# Altium footprint library fuse.PcbLib: 15 footprints
Each footprint in its own frame and in the unit in brackets; x right, y up, seen from the top. Pads: shape width x height; smd on the part's side, far side on the other; paste and mask are expansions set on the pad; w line width, h text height; cw(c..) or ccw(c..) is an arc to the next point about the centre after c.
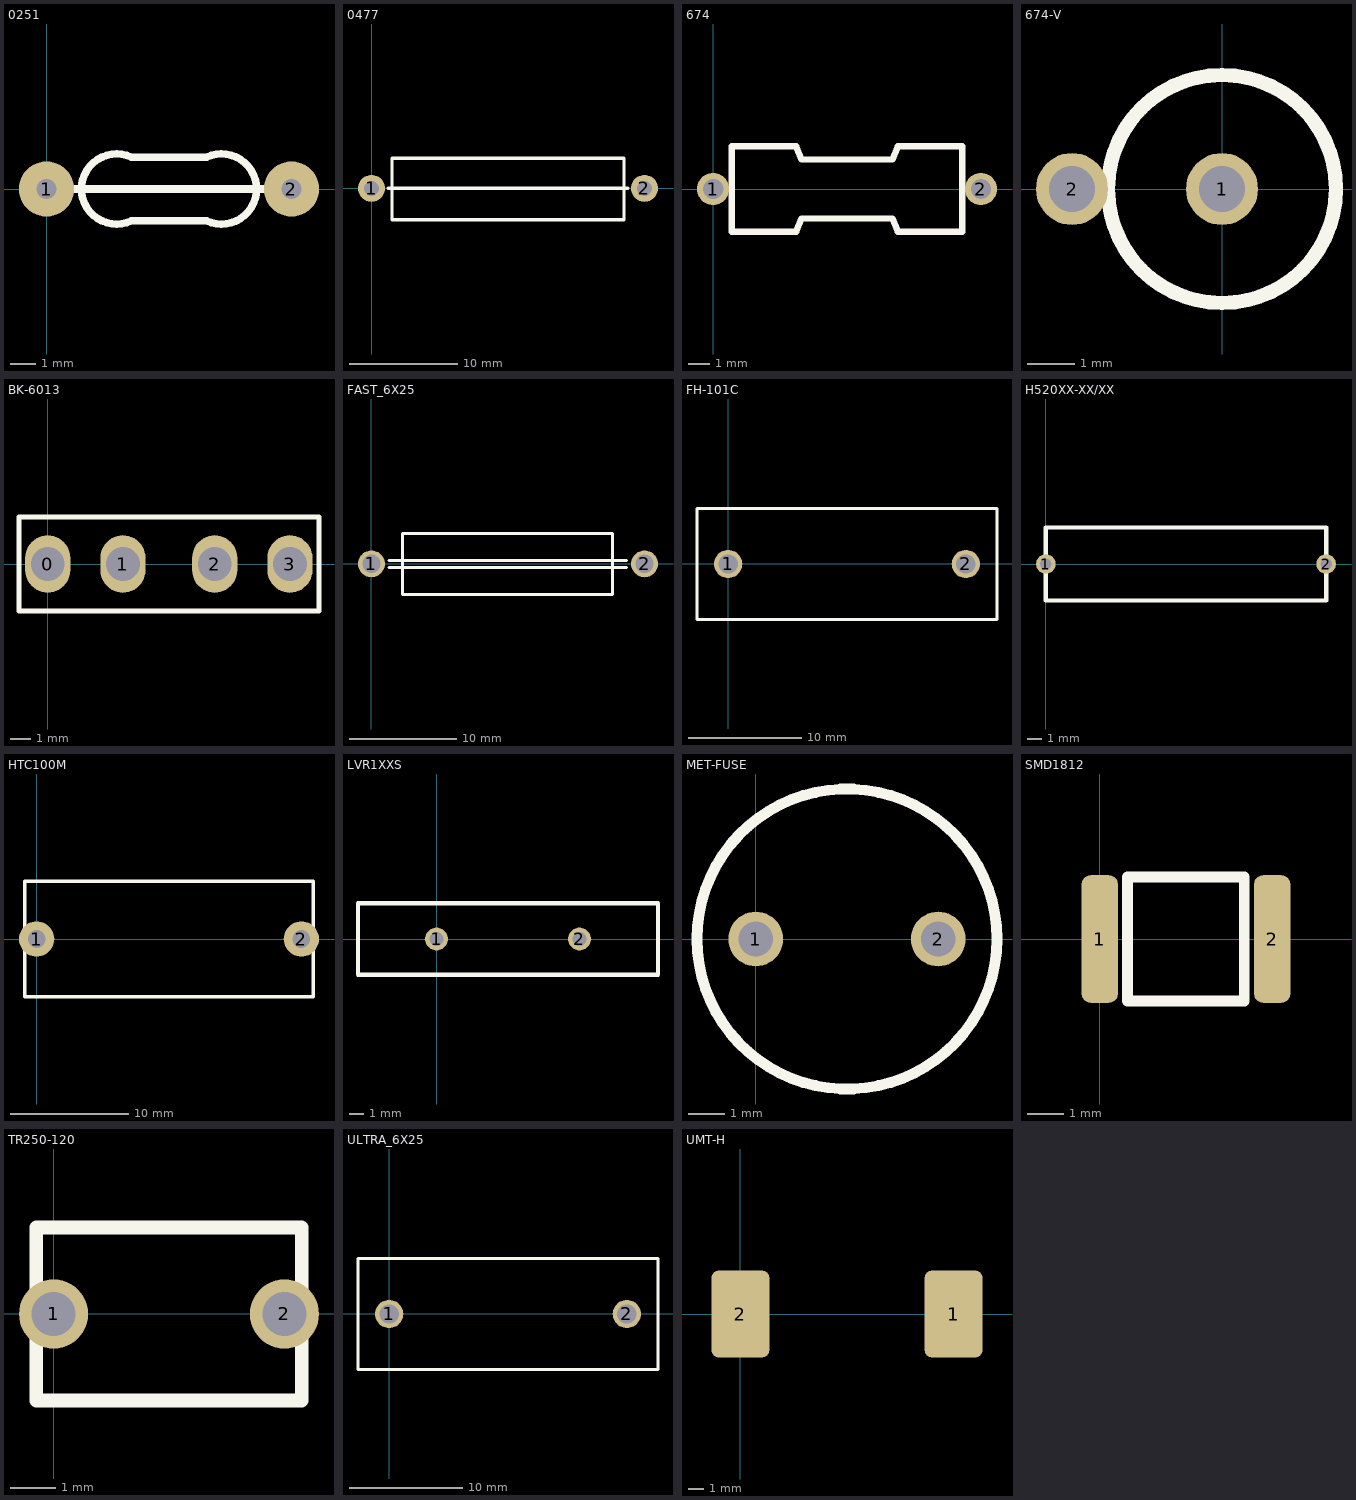
[diagram p0: the footprints below, top view; thin cyan lines are the x and y axes]

## 0251 [mm]
pads (2):
  round 2.2 hole 0.8: 1(0,0) 2(9.779,0)
Top Overlay:
  lines w0.3: 1.143,0 8.636,0 ; 3.386,-1.269 cw(c2.794,0) 3.386,1.269 ; 3.429,-1.27 6.35,-1.27 ; 3.429,1.27 6.35,1.27 ; 6.392,-1.271 ccw(c6.985,0) 6.392,1.271

## 0477 [mm]
pads (2):
  round 2.5 hole 1.4: 1(0,0) 2(25.273,0)
Top Overlay:
  lines w0.3: 1.524,0 23.749,0 ; 1.905,-2.921 1.905,2.794 23.368,2.794 23.368,-2.921 1.905,-2.921

## 674 [mil]
pads (2):
  round 60 hole 38: 1(0,0) 2(500,0)
Top Overlay:
  lines w11.81: 35,-80 155,-80 165,-55 335,-55 345,-80 465,-80 465,80 345,80 335,55 165,55 155,80 35,80 35,-80

## 674-V [mil]
pads (2):
  round 60 hole 38: 1(0,0) 2(-125,0)
Top Overlay:
  circle w11.81: c0,0 r95

## BK-6013 [mm]
height 9
pads (4):
  oval 2.2x2.8 hole 1.65 unplated: 0(0,0) 1(3.66,0) 2(8.13,0) 3(11.79,0)
Top Overlay:
  lines w0.254: -1.397,-2.286 13.208,-2.286 13.208,2.286 -1.397,2.286 -1.397,-2.286
3D body "User Library-0297025.STEP": height 20.3, standoff 3.37, extent 0.468,-1.905 11.368,1.904
3D body "BK-6013.step": height 8.8, standoff -2.2, extent -1.397,-2.362 13.303,2.388

## FAST_6X25 [mm]
pads (2):
  round 2.5 hole 1.7: 1(0,0) 2(25.4,0)
Top Overlay:
  lines w0.3: 1.64,-0.33 23.69,-0.33 ; 1.64,0.3 23.69,0.3 ; 2.9,-2.85 22.43,-2.85 22.43,2.82 16.13,2.82 2.9,2.82 2.9,-2.85

## FH-101C [mm]
pads (2):
  round 2.5 hole 1.7: 1(0,0) 2(21,0)
Top Overlay:
  lines w0.3: -2.75,-4.9 -2.75,4.9 23.75,4.9 23.75,-4.9 -2.75,-4.9

## H520XX-XX/XX [mm]
pads (2):
  round 1.4 hole 0.8: 1(0,0) 2(20,0)
Top Overlay:
  lines w0.3: 0,-2.6 0,2.6 20,2.6 20,-2.6 0,-2.6

## HTC100M [mm]
pads (2):
  round 3 hole 1.5: 1(0,0) 2(22.5,0)
Top Overlay:
  lines w0.3: 23.49,-4.9 -1,-4.9 -1,4.9 23.5,4.9 23.5,-4.9

## LVR1XXS [mm]
pads (2):
  round 1.6 hole 1: 1(0,0) 2(10,0)
Top Overlay:
  lines w0.3: -5.5,-2.5 -5.5,-2 -5.5,2.5 5,2.5 15.5,2.5 15.5,-2.5 -5.5,-2.5

## MET-FUSE [mil]
pads (2):
  round 60 hole 38: 1(0,0) 2(200,0)
Top Overlay:
  circle w11.81: c100,0 r164.37

## SMD1812 [mm]
pads (2):
  rrect50% 1x3.5 smd: 1(0,0) 2(4.73,0)
Top Overlay:
  lines w0.3: 0.762,-1.705 0.762,1.705 3.962,1.705 3.962,-1.705 0.762,-1.705
3D body "User Library-Fuse 1812.step": height 1.03, standoff 0, extent 0.023,-1.74 4.758,1.74

## TR250-120 [mil]
pads (2):
  round 60 hole 38: 1(0,0) 2(200,0)
Top Overlay:
  lines w11.81: -15,-75 215,-75 215,75 -15,75 -15,-75
3D body "fuse TR250.sldprt": height 393.7, standoff -78.74, extent -40.67,-122.54 240.68,122.55

## ULTRA_6X25 [mm]
pads (2):
  round 2.5 hole 1.7: 1(0,0) 2(21,0)
Top Overlay:
  lines w0.3: -2.75,-4.9 23.75,-4.9 23.75,4.9 -2.75,4.9 -2.75,-4.9

## UMT-H [mm]
height 5.35
pads (2):
  rrect25% 3.75x5.6 smd: 1(13.75,0) 2(0,0)
3D body "e_0100.3446d003.step": height 5.36, standoff 0.01, extent -1.242,-2.675 14.958,2.675